# EAGLE library part AD9834 (library analogdevices-dds)
Low Power Complete DDS Clock Rate up to 75 MHz Serial Interface
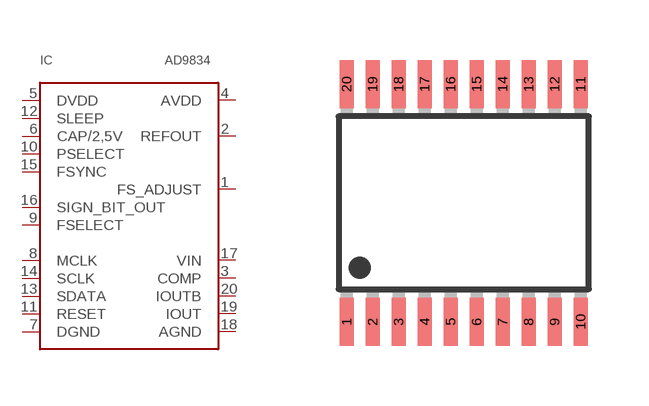
[diagram p5: symbol with the pads of TSSOP20; footprint TSSOP20]

Designator prefix IC

## AD9834  [TSSOP20]
1  FS_ADJUST
2  REFOUT
3  COMP
4  AVDD  pwr
5  DVDD  pwr
6  CAP/2,5V
7  DGND  pwr
8  MCLK
9  FSELECT
10  PSELECT
11  RESET  pwr
12  SLEEP
13  SDATA
14  SCLK
15  FSYNC
16  SIGN_BIT_OUT
17  VIN
18  AGND  pwr
19  IOUT
20  IOUTB

## Footprint TSSOP20 (pad centres in mm)
smd 0.35 x 1.2: 1 -2.275,-2.97; 2 -1.625,-2.97; 3 -0.975,-2.97; 4 -0.325,-2.97; 5 0.325,-2.97; 6 0.975,-2.97; 7 1.625,-2.97; 8 2.275,-2.97; 9 2.925,-2.97; 10 3.575,-2.97; 11 3.575,2.97; 12 2.925,2.97; 13 2.275,2.97; 14 1.625,2.97; 15 0.975,2.97; 16 0.325,2.97; 17 -0.325,2.97; 18 -0.975,2.97; 19 -1.625,2.97; 20 -2.275,2.97